# EAGLE library part MCP6V34 (library Microchip)
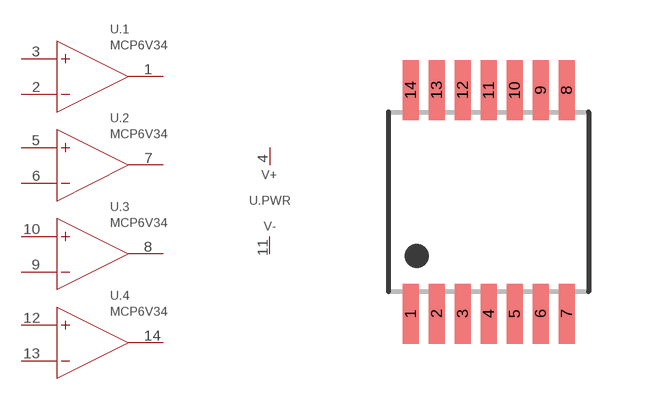
[diagram p32: symbol with the pads of TSSOP14; footprint TSSOP14]

Designator prefix U; gates .1=OP_AMP .2=OP_AMP .PWR=OP_AMP_PWR .3=OP_AMP .4=OP_AMP

## MCP6V34  [TSSOP14]
1  .1:OUT  out
2  .1:-IN  in
3  .1:+IN  in
4  .PWR:V+  pwr
5  .2:+IN  in
6  .2:-IN  in
7  .2:OUT  out
8  .3:OUT  out
9  .3:-IN  in
10  .3:+IN  in
11  .PWR:V-  pwr
12  .4:+IN  in
13  .4:-IN  in
14  .4:OUT  out

## Footprint TSSOP14 (pad centres in mm)
smd 0.4 x 1.5: 1 -1.95,-2.8; 2 -1.3,-2.8; 3 -0.65,-2.8; 4 0,-2.8; 5 0.65,-2.8; 6 1.3,-2.8; 7 1.95,-2.8; 8 1.95,2.8; 9 1.3,2.8; 10 0.65,2.796; 11 0,2.796; 12 -0.65,2.8; 13 -1.3,2.8; 14 -1.95,2.8